# Altium footprint library 0R_7TRACES.PcbLib: 1 footprints
Each footprint in its own frame and in the unit in brackets; x right, y up, seen from the top. Pads: shape width x height; smd on the part's side, far side on the other; paste and mask are expansions set on the pad; w line width, h text height; cw(c..) or ccw(c..) is an arc to the next point about the centre after c.
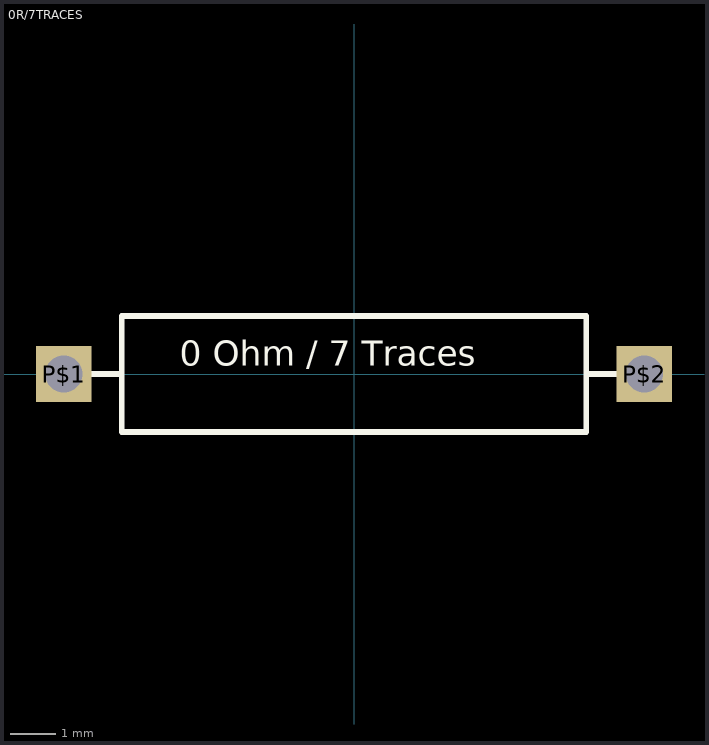
[diagram p0: the footprint, top view; thin cyan lines are the x and y axes]

## 0R/7TRACES [mil]
pads (2):
  rect 48x48 hole 32: P$1(-250,0) P$2(250,0)
Top Overlay:
  lines w5: -250,0 -200,0 ; 250,0 200,0 ; -200,0 -200,-50 200,-50 200,0 ; -200,0 -200,50 200,50 200,0
  text "0 Ohm / 7 Traces" at -150,0 h37.2